# Altium schematic symbol library DSP_Motorola.SchLib: 1 symbol
Pins are listed as number, name and electrical type; pins without a type are passive.

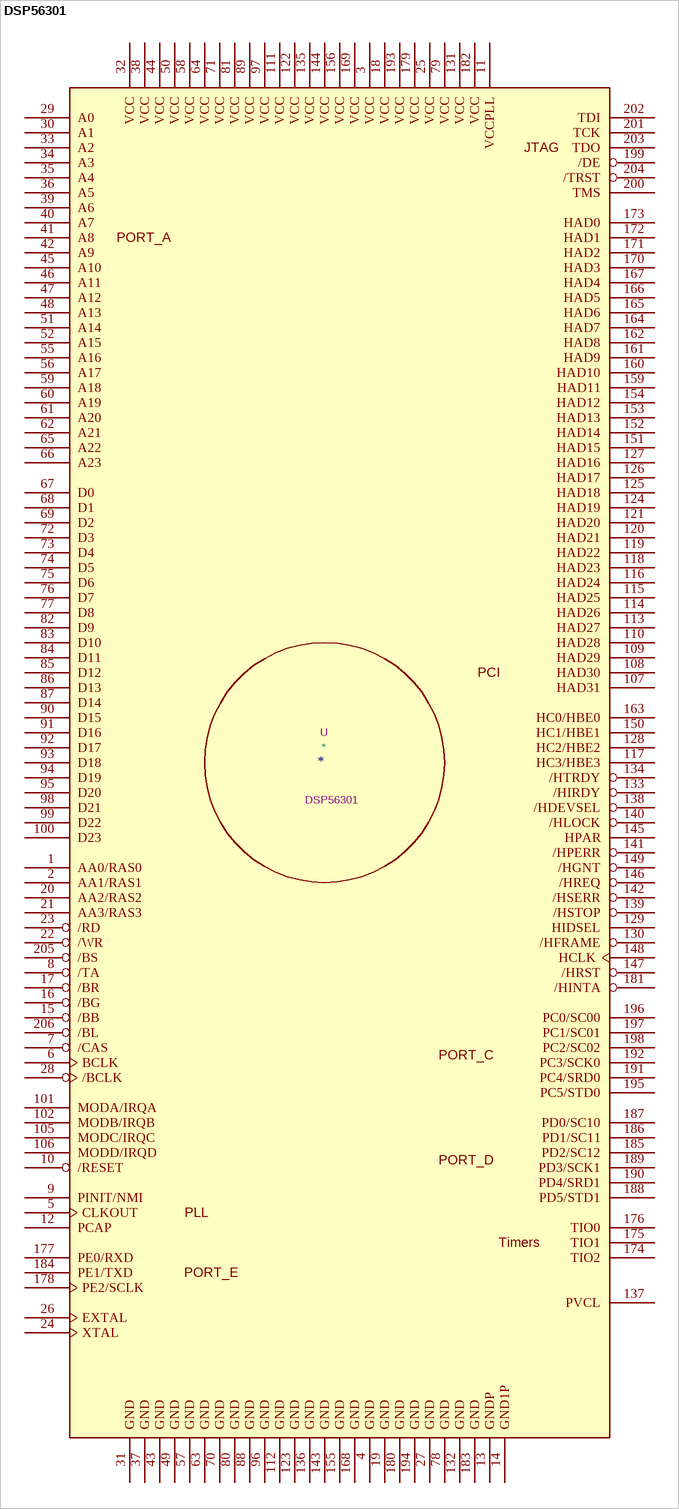
[diagram p0: symbol DSP56301]

## DSP56301
designator *  value DSP56301  Reference: U
ki_keywords: DSP PCI; ki_description: 24-Bit Digital Signal Processor with PCI bus interface; ki_fp_filters: PQFP*28x28mm*P0.5mm*; Footprint: Package_QFP:PQFP-208_28x28mm_P0.5mm; Datasheet: https://www.nxp.com/docs/en/data-sheet/DSP56301DS.pdf
pins: 1 AA0/RAS0, 2 AA1/RAS1, 3 VCC, 4 GND, 5 CLKOUT, 6 BCLK, 7 /CAS, 8 /TA, 9 PINIT/NMI, 10 /RESET, 11 VCCPLL, 12 PCAP, 13 GNDP, 14 GND1P, 15 /BB, 16 /BG, 17 /BR, 18 VCC, 19 GND, 20 AA2/RAS2, 21 AA3/RAS3, 22 /WR, 23 /RD, 24 XTAL, 25 VCC, 26 EXTAL, 27 GND, 28 /BCLK, 29 A0, 30 A1, 31 GND, 32 VCC, 33 A2, 34 A3, 35 A4, 36 A5, 37 GND, 38 VCC, 39 A6, 40 A7, 41 A8, 42 A9, 43 GND, 44 VCC, 45 A10, 46 A11, 47 A12, 48 A13, 49 GND, 50 VCC, 51 A14, 52 A15, 55 A16, 56 A17, 57 GND, 58 VCC, 59 A18, 60 A19, 61 A20, 62 A21, 63 GND, 64 VCC, 65 A22, 66 A23, 67 D0, 68 D1, 69 D2, 70 GND, 71 VCC, 72 D3, 73 D4, 74 D5, 75 D6, 76 D7, 77 D8, 78 GND, 79 VCC, 80 GND, 81 VCC, 82 D9, 83 D10, 84 D11, 85 D12, 86 D13, 87 D14, 88 GND, 89 VCC, 90 D15, 91 D16, 92 D17, 93 D18, 94 D19, 95 D20, 96 GND, 97 VCC, 98 D21, 99 D22, 100 D23, 101 MODA/IRQA, 102 MODB/IRQB, 105 MODC/IRQC, 106 MODD/IRQD, 107 HAD31, 108 HAD30, 109 HAD29, 110 HAD28, 111 VCC, 112 GND, 113 HAD27, 114 HAD26, 115 HAD25, 116 HAD24, 117 HC3/HBE3, 118 HAD23, 119 HAD22, 120 HAD21, 121 HAD20, 122 VCC, 123 GND, 124 HAD19, 125 HAD18, 126 HAD17, 127 HAD16, 128 HC2/HBE2, 129 HIDSEL, 130 /HFRAME, 131 VCC, 132 GND, 133 /HIRDY, 134 /HTRDY, 135 VCC, 136 GND, 137 PVCL, 138 /HDEVSEL, 139 /HSTOP, 140 /HLOCK, 141 /HPERR, 142 /HSERR, 143 GND, 144 VCC, 145 HPAR, 146 /HREQ, 147 /HRST, 148 HCLK, 149 /HGNT, 150 HC1/HBE1, 151 HAD15, 152 HAD14, 153 HAD13, 154 HAD12, 155 GND, 156 VCC, 159 HAD11, 160 HAD10, 161 HAD9, 162 HAD8, 163 HC0/HBE0, 164 HAD7, 165 HAD6, 166 HAD5, 167 HAD4, 168 GND, 169 VCC, 170 HAD3, 171 HAD2, 172 HAD1, 173 HAD0, 174 TIO2, 175 TIO1, 176 TIO0, 177 PE0/RXD, 178 PE2/SCLK, 179 VCC, 180 GND, 181 /HINTA, 182 VCC, 183 GND, 184 PE1/TXD, 185 PD2/SC12, 186 PD1/SC11, 187 PD0/SC10, 188 PD5/STD1, 189 PD3/SCK1, 190 PD4/SRD1, 191 PC4/SRD0, 192 PC3/SCK0, 193 VCC, 194 GND, 195 PC5/STD0, 196 PC0/SC00, 197 PC1/SC01, 198 PC2/SC02, 199 /DE, 200 TMS, 201 TCK, 202 TDI, 203 TDO, 204 /TRST, 205 /BS, 206 /BL
text: JTAG; PORT_A; PCI; PORT_C; PORT_D; PLL; Timers; PORT_E